# EAGLE library part ISO7631 (library RalimTek)
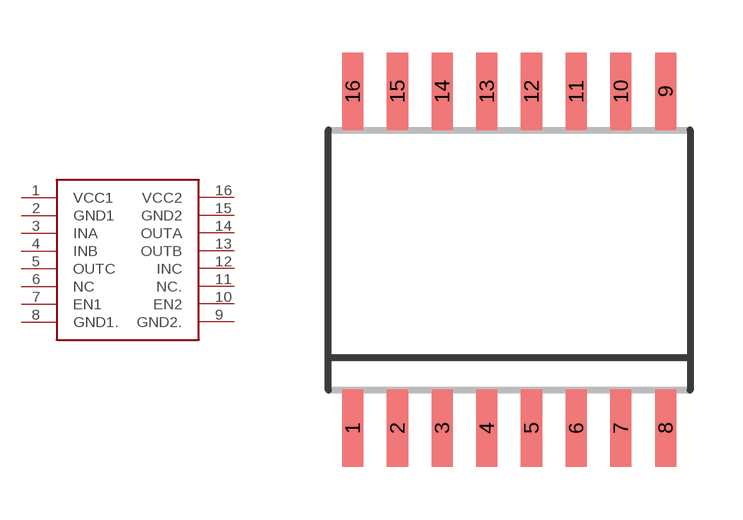
[diagram p33: symbol with the pads of SOIC16R; footprint SOIC16R]

Designator prefix -

## ISO7631  [SOIC16R]
1  VCC1
2  GND1
3  INA
4  INB
5  OUTC
6  NC
7  EN1
8  GND1.
9  GND2.
10  EN2
11  NC.
12  INC
13  OUTB
14  OUTA
15  GND2
16  VCC2

## Footprint SOIC16R (pad centres in mm)
16-Lead SOIC (R) Package Source: http://www.analog.com/static/imported-files/data_sheets/AD745.pdf
smd 0.6 x 2.2: 1 -4.445,-4.775; 2 -3.175,-4.775; 3 -1.905,-4.775; 4 -0.635,-4.775; 5 0.635,-4.775; 6 1.905,-4.775; 7 3.175,-4.775; 8 4.445,-4.775; 9 4.445,4.8; 10 3.175,4.8; 11 1.905,4.8; 12 0.635,4.8; 13 -0.635,4.8; 14 -1.905,4.8; 15 -3.175,4.8; 16 -4.445,4.8